# Altium footprint library From_EK_191028.PcbLib: 29 footprints (part 2 of 2)
Each footprint in its own frame and in the unit in brackets; x right, y up, seen from the top. Pads: shape width x height; smd on the part's side, far side on the other; paste and mask are expansions set on the pad; w line width, h text height; cw(c..) or ccw(c..) is an arc to the next point about the centre after c.
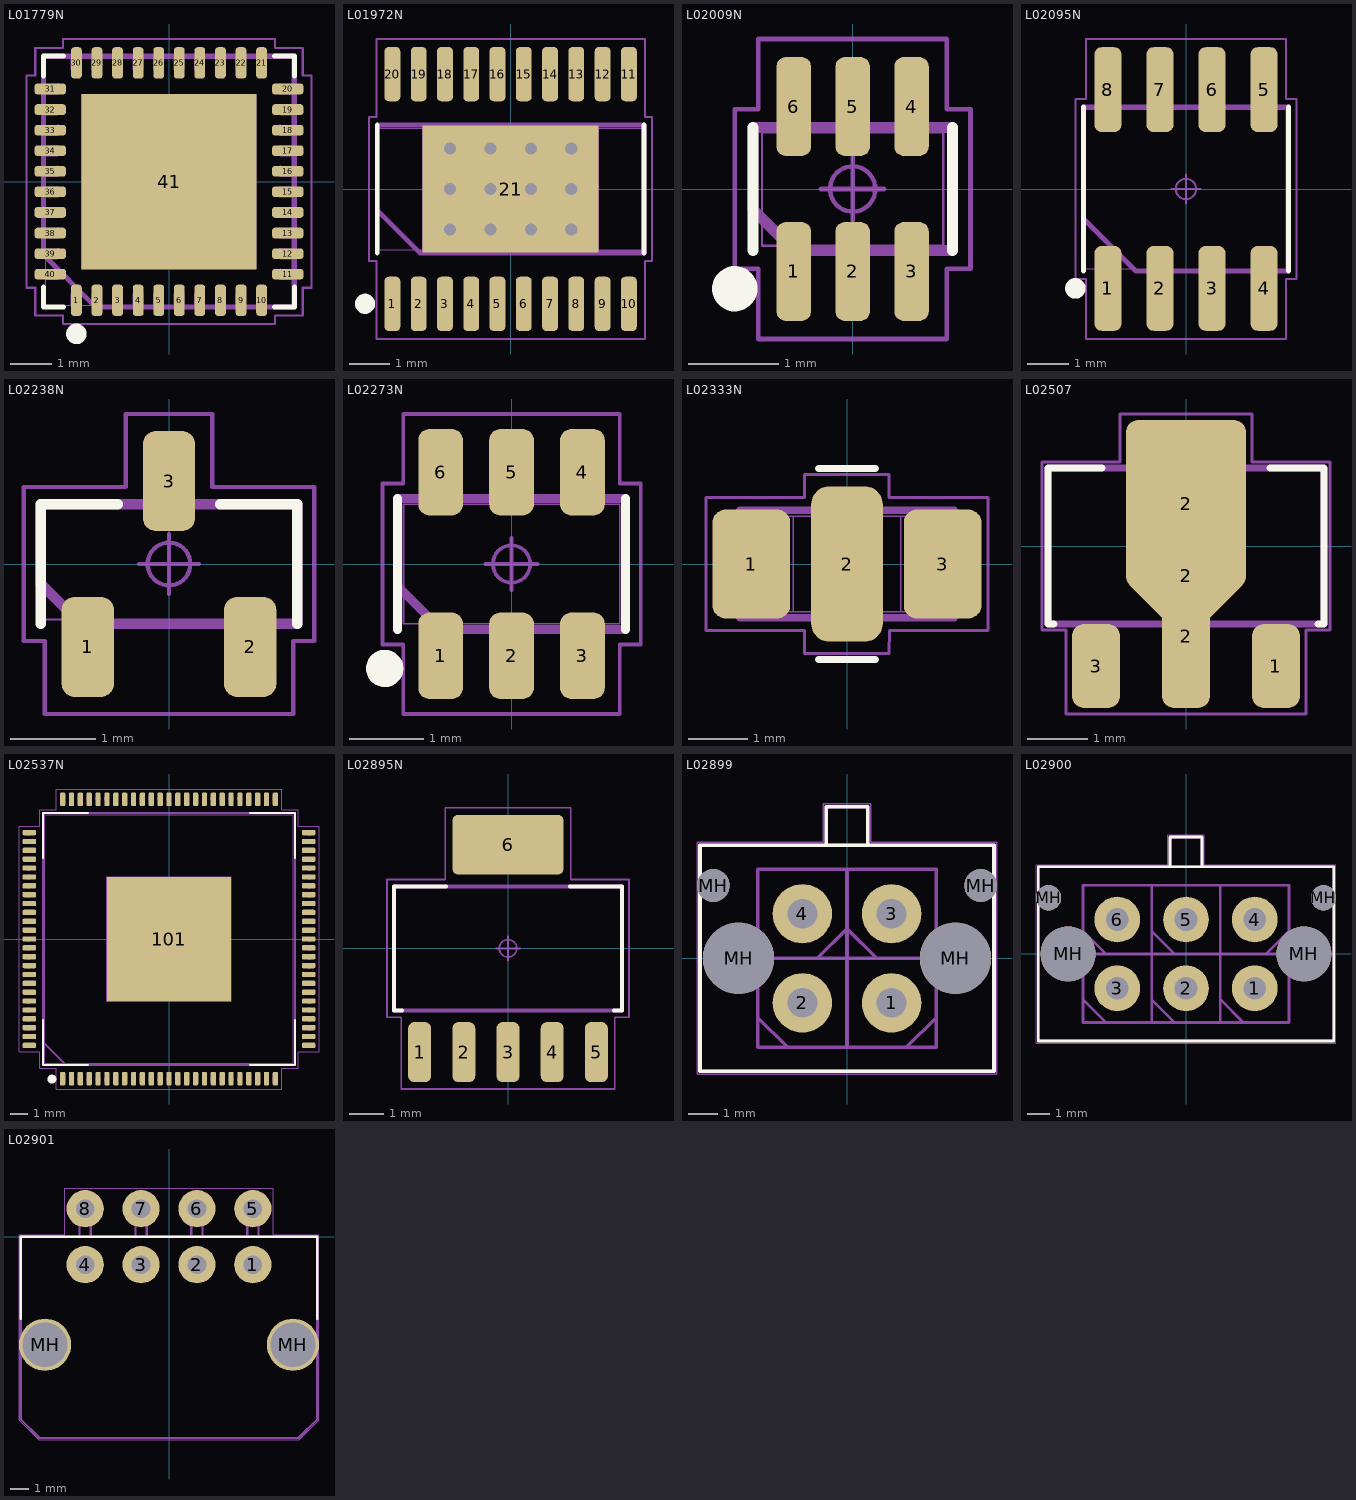
[diagram p1: the footprints below, top view; thin cyan lines are the x and y axes]

## L01779N [mm] "QFN41P50_600X600X100L40X24T425N"
height 1
pads (41):
  rrect54% 0.26x0.76 smd: 1(-2.25,-2.885) 2(-1.75,-2.885) 3(-1.25,-2.885) 4(-0.75,-2.885) 5(-0.25,-2.885) 6(0.25,-2.885) 7(0.75,-2.885) 8(1.25,-2.885) 9(1.75,-2.885) 10(2.25,-2.885) 21(2.25,2.885) 22(1.75,2.885) 23(1.25,2.885) 24(0.75,2.885) 25(0.25,2.885) 26(-0.25,2.885) 27(-0.75,2.885) 28(-1.25,2.885) 29(-1.75,2.885) 30(-2.25,2.885)
  rrect54% 0.76x0.26 smd: 11(2.885,-2.25) 12(2.885,-1.75) 13(2.885,-1.25) 14(2.885,-0.75) 15(2.885,-0.25) 16(2.885,0.25) 17(2.885,0.75) 18(2.885,1.25) 19(2.885,1.75) 20(2.885,2.25) 31(-2.885,2.25) 32(-2.885,1.75) 33(-2.885,1.25) 34(-2.885,0.75) 35(-2.885,0.25) 36(-2.885,-0.25) 37(-2.885,-0.75) 38(-2.885,-1.25) 39(-2.885,-1.75) 40(-2.885,-2.25)
  rect 4.25x4.25 smd: 41(0,0)
Top Overlay:
  circle w0.25: c-2.25,-3.7 r0.125
  lines w0.12: -3.05,-2.56 -3.05,-3.05 -2.56,-3.05 ; -3.05,2.56 -3.05,3.05 -2.56,3.05 ; 2.56,-3.05 3.05,-3.05 3.05,-2.56 ; 2.56,3.05 3.05,3.05 3.05,2.56
Mechanical 13:
  lines w0.12: -3.05,-1.78 -3.05,3.05 3.05,3.05 3.05,-3.05 -1.78,-3.05 -3.05,-1.78
  text ".Designator" at -3.4,-0.6 h1.5
Mechanical 15:
  circle w0.05: c0,0 r0.25
  lines w0.05: -0.35,0 0.35,0 ; 0,-0.35 0,0.35 ; -3.465,-2.58 -3.25,-2.58 -3.25,-3.25 -2.58,-3.25 -2.58,-3.465 2.58,-3.465 2.58,-3.25 3.25,-3.25 3.25,-2.58 3.465,-2.58 3.465,2.58 3.25,2.58 3.25,3.25 2.58,3.25 2.58,3.465 -2.58,3.465 -2.58,3.25 -3.25,3.25 -3.25,2.58 -3.465,2.58 -3.465,-2.58
Mechanical 31:
  drawing of 168 lines, arcs and shapes, not listed
3D body "QFN41P50_600X600X100L40X24T425.STEP": height 1, standoff 0, extent -3.1,-3.1 3.1,3.1

## L01972N [mm] "SOP21P65_650X640X110L60X24T435X315N"
height 1.1
pads (21):
  rrect51% 0.39x1.34 smd: 1(-2.925,-2.84) 2(-2.275,-2.84) 3(-1.625,-2.84) 4(-0.975,-2.84) 5(-0.325,-2.84) 6(0.325,-2.84) 7(0.975,-2.84) 8(1.625,-2.84) 9(2.275,-2.84) 10(2.925,-2.84) 11(2.925,2.84) 12(2.275,2.84) 13(1.625,2.84) 14(0.975,2.84) 15(0.325,2.84) 16(-0.325,2.84) 17(-0.975,2.84) 18(-1.625,2.84) 19(-2.275,2.84) 20(-2.925,2.84)
  rect 4.35x3.15 smd: 21(0,0)
via -1.5,1 diameter 0.6 hole 0.3
via -0.5,1 diameter 0.6 hole 0.3
via 0.5,1 diameter 0.6 hole 0.3
via 1.5,1 diameter 0.6 hole 0.3
via 1.5,0 diameter 0.6 hole 0.3
via 0.5,0 diameter 0.6 hole 0.3
via -0.5,0 diameter 0.6 hole 0.3
via -1.5,0 diameter 0.6 hole 0.3
via 1.5,-1 diameter 0.6 hole 0.3
via 0.5,-1 diameter 0.6 hole 0.3
via -0.5,-1 diameter 0.6 hole 0.3
via -1.5,-1 diameter 0.6 hole 0.3
Top Overlay:
  circle w0.25: c-3.6,-2.84 r0.125
  lines w0.12: -3.3,-1.58 -3.3,1.58 ; 3.3,-1.58 3.3,1.58
Top Paste:
  region: 1.905,-1.305 0.265,-1.305 0.265,-0.265 1.905,-0.265
  region: 1.905,0.265 0.265,0.265 0.265,1.305 1.905,1.305
  region: -0.265,-1.305 -1.905,-1.305 -1.905,-0.265 -0.265,-0.265
  region: -0.265,0.265 -1.905,0.265 -1.905,1.305 -0.265,1.305
Mechanical 13:
  lines w0.12: -3.3,-0.527 -2.247,-1.58 3.3,-1.58 3.3,1.58 -3.3,1.58 -3.3,-0.527
  text ".Designator" at -3.4,-0.6 h1.5
Mechanical 15:
  circle w0.05: c0,0 r0.25
  lines w0.05: -0.35,0 0.35,0 ; 0,-0.35 0,0.35 ; -3.5,-1.78 -3.5,1.78 -3.32,1.78 -3.32,3.71 3.32,3.71 3.32,1.78 3.5,1.78 3.5,-1.78 3.32,-1.78 3.32,-3.71 -3.32,-3.71 -3.32,-1.78 -3.5,-1.78
Mechanical 31:
  lines w0.025: -3.25,-1.5 -3.25,1.5 3.25,1.5 3.25,-1.5 -3.25,-1.5 ; -3.047,-3.2 -2.802,-3.2 -2.802,-2.6 -3.047,-2.6 -3.047,-3.2 ; -3.047,2.6 -2.802,2.6 -2.802,3.2 -3.047,3.2 -3.047,2.6 ; -2.398,-3.2 -2.153,-3.2 -2.153,-2.6 -2.398,-2.6 -2.398,-3.2 ; -2.398,2.6 -2.153,2.6 -2.153,3.2 -2.398,3.2 -2.398,2.6 ; -2.175,-1.575 2.175,-1.575 2.175,1.575 -2.175,1.575 -2.175,-1.575 ; -1.747,-3.2 -1.502,-3.2 -1.502,-2.6 -1.747,-2.6 -1.747,-3.2 ; -1.747,2.6 -1.502,2.6 -1.502,3.2 -1.747,3.2 -1.747,2.6 ; -1.098,-3.2 -0.853,-3.2 -0.853,-2.6 -1.098,-2.6 -1.098,-3.2 ; -1.098,2.6 -0.853,2.6 -0.853,3.2 -1.098,3.2 -1.098,2.6 ; -0.447,-3.2 -0.202,-3.2 -0.202,-2.6 -0.447,-2.6 -0.447,-3.2 ; -0.447,2.6 -0.202,2.6 -0.202,3.2 -0.447,3.2 -0.447,2.6 ; 0.202,-3.2 0.447,-3.2 0.447,-2.6 0.202,-2.6 0.202,-3.2 ; 0.202,2.6 0.447,2.6 0.447,3.2 0.202,3.2 0.202,2.6 ; 0.853,-3.2 1.098,-3.2 1.098,-2.6 0.853,-2.6 0.853,-3.2 ; 0.853,2.6 1.098,2.6 1.098,3.2 0.853,3.2 0.853,2.6 ; 1.502,-3.2 1.747,-3.2 1.747,-2.6 1.502,-2.6 1.502,-3.2 ; 1.502,2.6 1.747,2.6 1.747,3.2 1.502,3.2 1.502,2.6 ; 2.153,-3.2 2.398,-3.2 2.398,-2.6 2.153,-2.6 2.153,-3.2 ; 2.153,2.6 2.398,2.6 2.398,3.2 2.153,3.2 2.153,2.6 ; 2.802,-3.2 3.047,-3.2 3.047,-2.6 2.802,-2.6 2.802,-3.2 ; 2.802,2.6 3.047,2.6 3.047,3.2 2.802,3.2 2.802,2.6
3D body "SOP21P65_650X640X110L60X24T435X315.STEP": height 1.1, standoff 0, extent -3.3,-3.3 3.3,3.3

## L02009N [mm] "SOT23-6P65_210X110L36X22N"
height 1.1
pads (6):
  rrect53% 0.38x1.09 smd: 1(-0.65,-0.91) 2(0,-0.91) 3(0.65,-0.91) 4(0.65,0.91) 5(0,0.91) 6(-0.65,0.91)
Top Overlay:
  circle w0.25: c-1.3,-1.1 r0.125
  lines w0.12: -1.1,-0.68 -1.1,0.68 ; 1.1,-0.68 1.1,0.68
Mechanical 13:
  lines w0.12: -1.1,-0.227 -1.1,0.68 1.1,0.68 1.1,-0.68 -0.647,-0.68 -1.1,-0.227
  text ".Designator" at -2.7,-0.4 h1.2
Mechanical 15:
  circle w0.05: c0,0 r0.25
  lines w0.05: -0.35,0 0.35,0 ; 0,-0.35 0,0.35 ; -1.3,-0.88 -1.04,-0.88 -1.04,-1.655 1.04,-1.655 1.04,-0.88 1.3,-0.88 1.3,0.88 1.04,0.88 1.04,1.655 -1.04,1.655 -1.04,0.88 -1.3,0.88 -1.3,-0.88
Mechanical 31:
  lines w0.025: -1,-0.625 1,-0.625 1,0.625 -1,0.625 -1,-0.625 ; -0.763,-1.05 -0.763,-0.69 -0.537,-0.69 -0.537,-1.05 -0.763,-1.05 ; -0.763,0.69 -0.763,1.05 -0.537,1.05 -0.537,0.69 -0.763,0.69 ; -0.112,-1.05 -0.112,-0.69 0.112,-0.69 0.112,-1.05 -0.112,-1.05 ; -0.112,0.69 -0.112,1.05 0.112,1.05 0.112,0.69 -0.112,0.69 ; 0.537,-1.05 0.537,-0.69 0.763,-0.69 0.763,-1.05 0.537,-1.05 ; 0.537,0.69 0.537,1.05 0.763,1.05 0.763,0.69 0.537,0.69
3D body "SOT23-6P65_210X110L36X22.STEP": height 1.1, standoff 0, extent -1.1,-1.2 1.1,1.2

## L02095N [mm] "SOIC8P127_490X600X180L84X41N"
height 1.8
pads (8):
  rrect52% 0.66x2.07 smd: 1(-1.905,-2.425) 2(-0.635,-2.425) 3(0.635,-2.425) 4(1.905,-2.425) 5(1.905,2.425) 6(0.635,2.425) 7(-0.635,2.425) 8(-1.905,2.425)
Top Overlay:
  circle w0.25: c-2.7,-2.425 r0.125
  lines w0.12: -2.5,-2 -2.5,2 ; 2.5,-2 2.5,2
Mechanical 13:
  lines w0.12: -2.5,-0.73 -2.5,2 2.5,2 2.5,-2 -1.23,-2 -2.5,-0.73
  text ".Designator" at -3.4,-0.6 h1.5
Mechanical 15:
  circle w0.05: c0,0 r0.25
  lines w0.05: -0.35,0 0.35,0 ; 0,-0.35 0,0.35 ; -2.7,-2.2 -2.435,-2.2 -2.435,-3.66 2.435,-3.66 2.435,-2.2 2.7,-2.2 2.7,2.2 2.435,2.2 2.435,3.66 -2.435,3.66 -2.435,2.2 -2.7,2.2 -2.7,-2.2
Mechanical 31:
  lines w0.025: -2.45,-1.95 2.45,-1.95 2.45,1.95 -2.45,1.95 -2.45,-1.95 ; -2.11,-3 -2.11,-2.16 -1.7,-2.16 -1.7,-3 -2.11,-3 ; -2.11,2.16 -2.11,3 -1.7,3 -1.7,2.16 -2.11,2.16 ; -0.84,-3 -0.84,-2.16 -0.43,-2.16 -0.43,-3 -0.84,-3 ; -0.84,2.16 -0.84,3 -0.43,3 -0.43,2.16 -0.84,2.16 ; 0.43,-3 0.43,-2.16 0.84,-2.16 0.84,-3 0.43,-3 ; 0.43,2.16 0.43,3 0.84,3 0.84,2.16 0.43,2.16 ; 1.7,-3 1.7,-2.16 2.11,-2.16 2.11,-3 1.7,-3 ; 1.7,2.16 1.7,3 2.11,3 2.11,2.16 1.7,2.16
3D body "SOIC8P127_490X600X180L84X41.STEP": height 1.8, standoff 0, extent -2.5,-3.1 2.5,3.1

## L02238N [mm] "Small Outline Transistor (SOT23), 0.95 mm pitch; 3 pin, 2.90 mm L X 1.30 mm W X 1.20 mm H body"
height 1.2
pads (3):
  rrect49% 0.61x1.17 smd: 1(-0.95,-0.97) 2(0.95,-0.97) 3(0,0.97)
Top Overlay:
  lines w0.12: -1.5,-0.7 -1.5,0.7 -0.6,0.7 ; 0.6,0.7 1.5,0.7 1.5,-0.7
Mechanical 13:
  lines w0.12: -1.5,-0.233 -1.5,0.7 1.5,0.7 1.5,-0.7 -1.033,-0.7 -1.5,-0.233
  text ".Designator" at -2.54,-0.508 h1.2
Mechanical 15:
  circle w0.05: c0,0 r0.25
  lines w0.05: -0.35,0 0.35,0 ; 0,-0.35 0,0.35 ; -1.7,-0.9 -1.455,-0.9 -1.455,-1.755 1.455,-1.755 1.455,-0.9 1.7,-0.9 1.7,0.9 0.505,0.9 0.505,1.755 -0.505,1.755 -0.505,0.9 -1.7,0.9 -1.7,-0.9
Mechanical 31:
  lines w0.025: -1.45,-0.65 1.45,-0.65 1.45,0.65 -1.45,0.65 -1.45,-0.65 ; -1.15,-1.148 -1.15,-0.657 -0.75,-0.657 -0.75,-1.148 -1.15,-1.148 ; -0.2,0.657 -0.2,1.148 0.2,1.148 0.2,0.657 -0.2,0.657 ; 0.75,-1.148 0.75,-0.657 1.15,-0.657 1.15,-1.148 0.75,-1.148
3D body "SOT23-3P95_229X120L49X40.STEP": height 1.2, standoff 0, extent -1.5,-1.245 1.5,1.245

## L02273N [mm] "SOT23-6P95_280X110L45X37N"
height 1.1
pads (6):
  rrect50% 0.6x1.16 smd: 1(-0.95,-1.23) 2(0,-1.23) 3(0.95,-1.23) 4(0.95,1.23) 5(0,1.23) 6(-0.95,1.23)
Top Overlay:
  circle w0.25: c-1.7,-1.4 r0.125
  lines w0.12: -1.53,-0.88 -1.53,0.88 ; 1.53,-0.88 1.53,0.88
Mechanical 13:
  lines w0.12: -1.53,-0.293 -1.53,0.88 1.53,0.88 1.53,-0.88 -0.943,-0.88 -1.53,-0.293
  text ".Designator" at -2.7,-0.4 h1.2
Mechanical 15:
  circle w0.05: c0,0 r0.25
  lines w0.05: -0.35,0 0.35,0 ; 0,-0.35 0,0.35 ; -1.73,-1.08 -1.45,-1.08 -1.45,-2.01 1.45,-2.01 1.45,-1.08 1.73,-1.08 1.73,1.08 1.45,1.08 1.45,2.01 -1.45,2.01 -1.45,1.08 -1.73,1.08 -1.73,-1.08
Mechanical 31:
  lines w0.025: -1.45,-0.8 1.45,-0.8 1.45,0.8 -1.45,0.8 -1.45,-0.8 ; -1.138,-1.4 -1.138,-0.95 -0.763,-0.95 -0.763,-1.4 -1.138,-1.4 ; -1.138,0.95 -1.138,1.4 -0.763,1.4 -0.763,0.95 -1.138,0.95 ; -0.188,-1.4 -0.188,-0.95 0.188,-0.95 0.188,-1.4 -0.188,-1.4 ; -0.188,0.95 -0.188,1.4 0.188,1.4 0.188,0.95 -0.188,0.95 ; 0.763,-1.4 0.763,-0.95 1.138,-0.95 1.138,-1.4 0.763,-1.4 ; 0.763,0.95 0.763,1.4 1.138,1.4 1.138,0.95 0.763,0.95
3D body "SOT23-6P95_280X110L45X37.STEP": height 1.1, standoff 0, extent -1.525,-1.5 1.525,1.5

## L02333N [mm]
height 1.8
pads (3):
  rrect33% 1.3x1.82 smd: 1(-1.6,0) 3(1.6,0)
  rrect50% 1.2x2.6 smd: 2(0,0)
Top Overlay:
  lines w0.12: -0.475,-1.6 0.475,-1.6 ; -0.475,1.6 0.475,1.6
Mechanical 13:
  lines w0.12: -1.8,-0.9 1.8,-0.9 1.8,0.9 -1.8,0.9 -1.8,-0.9
  text ".Designator" at -3.302,-0.635 h1.5
Mechanical 15:
  circle w0.05: c0,0 r0.25
  lines w0.05: -0.35,0 0.35,0 ; 0,-0.35 0,0.35 ; 0.705,-1.5 -0.71,-1.5 -0.71,-1.11 -2.36,-1.11 -2.36,1.11 -0.71,1.11 -0.71,1.5 0.7,1.5 0.7,1.11 2.36,1.11 2.36,-1.11 0.71,-1.11 0.706,-1.5
Mechanical 31:
  lines w0.025: -1.6,-0.8 1.6,-0.8 ; -1.6,-0.8 -1.6,0.8 ; -1.6,-0.8 -1.6,0.8 ; -1.6,-0.8 -0.9,-0.8 -0.9,0.8 -1.6,0.8 ; -1.6,0.8 1.6,0.8 ; 1.6,-0.8 1.6,0.8 ; 1.6,-0.8 0.9,-0.8 0.9,0.8 1.6,0.8 ; 1.6,-0.8 1.6,0.8
3D body "INDC320X160X180L70.STEP": height 1.8, standoff 0, extent -1.8,-0.9 1.8,0.9
3D body: height 1.8, standoff 0, extent -0.4,-0.9 0.4,0.9

## L02507 [mm]
height 1.6
pads (5):
  rrect50% 0.8x1.4 smd: 1(1.5,-2) 3(-1.5,-2)
  rrect50% 0.8x2.4 smd: 2(0,-1.5)
  rrect30% 1.55x1.55 smd rot 45: 2(0,-0.5)
  rrect20% 2x2.8 smd: 2(0,0.7)
Top Overlay:
  lines w0.12: -2.2,-1.3 -2.3,-1.3 -2.3,1.3 -1.4,1.3 ; 1.4,1.3 2.3,1.3 2.3,-1.3 2.2,-1.3
Mechanical 13:
  lines w0.12: -2.3,-1.3 -2.3,1.3 2.3,1.3 2.3,-1.3 -2.3,-1.3
  text ".Designator" at -3.4,-0.7 h1.5
Mechanical 15:
  lines w0.05: -2.4,-1.4 -2.4,1.4 -1.1,1.4 -1.1,1.8 -1.1,2.2 1.1,2.2 1.1,1.4 2.4,1.4 2.4,-1.4 2,-1.4 2,-2.8 -2,-2.8 -2,-1.4 -2.4,-1.4
3D body "SOT89.step": height 1.53, standoff 0.02, extent -2.25,-2.2 2.25,1.8

## L02537N [mm] "QFP101P50_1600X1600X160L14X22T700N"
height 1.6
pads (101):
  rrect53% 0.3x0.77 smd: 1(-6,-7.875) 2(-5.5,-7.875) 3(-5,-7.875) 4(-4.5,-7.875) 5(-4,-7.875) 6(-3.5,-7.875) 7(-3,-7.875) 8(-2.5,-7.875) 9(-2,-7.875) 10(-1.5,-7.875) 11(-1,-7.875) 12(-0.5,-7.875) 13(0,-7.875) 14(0.5,-7.875) 15(1,-7.875) 16(1.5,-7.875) 17(2,-7.875) 18(2.5,-7.875) 19(3,-7.875) 20(3.5,-7.875) 21(4,-7.875) 22(4.5,-7.875) 23(5,-7.875) 24(5.5,-7.875) 25(6,-7.875) 51(6,7.875) 52(5.5,7.875) 53(5,7.875) 54(4.5,7.875) 55(4,7.875) 56(3.5,7.875) 57(3,7.875) 58(2.5,7.875) 59(2,7.875) 60(1.5,7.875) 61(1,7.875) 62(0.5,7.875) 63(0,7.875) 64(-0.5,7.875) 65(-1,7.875) 66(-1.5,7.875) 67(-2,7.875) 68(-2.5,7.875) 69(-3,7.875) 70(-3.5,7.875) 71(-4,7.875) 72(-4.5,7.875) 73(-5,7.875) 74(-5.5,7.875) 75(-6,7.875)
  rrect53% 0.77x0.3 smd: 26(7.875,-6) 27(7.875,-5.5) 28(7.875,-5) 29(7.875,-4.5) 30(7.875,-4) 31(7.875,-3.5) 32(7.875,-3) 33(7.875,-2.5) 34(7.875,-2) 35(7.875,-1.5) 36(7.875,-1) 37(7.875,-0.5) 38(7.875,0) 39(7.875,0.5) 40(7.875,1) 41(7.875,1.5) 42(7.875,2) 43(7.875,2.5) 44(7.875,3) 45(7.875,3.5) 46(7.875,4) 47(7.875,4.5) 48(7.875,5) 49(7.875,5.5) 50(7.875,6) 76(-7.875,6) 77(-7.875,5.5) 78(-7.875,5) 79(-7.875,4.5) 80(-7.875,4) 81(-7.875,3.5) 82(-7.875,3) 83(-7.875,2.5) 84(-7.875,2) 85(-7.875,1.5) 86(-7.875,1) 87(-7.875,0.5) 88(-7.875,0) 89(-7.875,-0.5) 90(-7.875,-1) 91(-7.875,-1.5) 92(-7.875,-2) 93(-7.875,-2.5) 94(-7.875,-3) 95(-7.875,-3.5) 96(-7.875,-4) 97(-7.875,-4.5) 98(-7.875,-5) 99(-7.875,-5.5) 100(-7.875,-6)
  rect 7x7 smd: 101(0,0)
Top Overlay:
  circle w0.25: c-6.6,-7.9 r0.125
  lines w0.12: -7.1,-4.56 -7.1,-7.1 -4.56,-7.1 ; -7.1,4.56 -7.1,7.1 -4.56,7.1 ; 4.56,-7.1 7.1,-7.1 7.1,-4.56 ; 4.56,7.1 7.1,7.1 7.1,4.56
Mechanical 13:
  lines w0.12: -7.1,-5.83 -7.1,7.1 7.1,7.1 7.1,-7.1 -5.83,-7.1 -7.1,-5.83
  text ".Designator" at -3.4,-0.6 h1.5
Mechanical 15:
  circle w0.05: c0,0 r0.25
  lines w0.05: -0.35,0 0.35,0 ; 0,-0.35 0,0.35 ; -8.46,-6.35 -7.3,-6.35 -7.3,-7.3 -6.35,-7.3 -6.35,-8.46 6.35,-8.46 6.35,-7.3 7.3,-7.3 7.3,-6.35 8.46,-6.35 8.46,6.35 7.3,6.35 7.3,7.3 6.35,7.3 6.35,8.46 -6.35,8.46 -6.35,7.3 -7.3,7.3 -7.3,6.35 -8.46,6.35 -8.46,-6.35
Mechanical 31:
  drawing of 408 lines, arcs and shapes, not listed
3D body "QFP101P50_1600X1600X160L14X22T700.STEP": height 1.6, standoff 0, extent -8.1,-8.1 8.1,8.1

## L02895N [mm] "SOT223-6P127_706X180L102X46N"
height 1.8
pads (6):
  rrect52% 0.66x1.72 smd: 1(-2.54,-2.98) 2(-1.27,-2.98) 3(0,-2.98) 4(1.27,-2.98) 5(2.54,-2.98)
  rrect20% 3.2x1.72 smd: 6(0,2.98)
Top Overlay:
  lines w0.12: -3.05,-1.78 -3.28,-1.78 -3.28,1.78 -1.78,1.78 ; 1.78,1.78 3.28,1.78 3.28,-1.78 3.05,-1.78
Mechanical 13:
  lines w0.12: -3.28,-1.78 3.28,-1.78 3.28,1.78 -3.28,1.78 -3.28,-1.78
  text ".Designator" at -3.4,-0.6 h1.5
Mechanical 15:
  circle w0.05: c0,0 r0.25
  lines w0.05: -0.35,0 0.35,0 ; 0,-0.35 0,0.35 ; -3.48,-1.98 -3.07,-1.98 -3.07,-4.04 3.07,-4.04 3.07,-1.98 3.48,-1.98 3.48,1.98 1.8,1.98 1.8,4.04 -1.8,4.04 -1.8,1.98 -3.48,1.98 -3.48,-1.98
Mechanical 31:
  lines w0.025: -3.25,-1.75 3.25,-1.75 3.25,1.75 -3.25,1.75 -3.25,-1.75 ; -2.77,-3.53 -2.77,-2.505 -2.31,-2.505 -2.31,-3.53 -2.77,-3.53 ; -1.5,-3.53 -1.5,-2.505 -1.04,-2.505 -1.04,-3.53 -1.5,-3.53 ; -1.5,2.505 -1.5,3.53 1.5,3.53 1.5,2.505 -1.5,2.505 ; -0.23,-3.53 -0.23,-2.505 0.23,-2.505 0.23,-3.53 -0.23,-3.53 ; 1.04,-3.53 1.04,-2.505 1.5,-2.505 1.5,-3.53 1.04,-3.53 ; 2.31,-3.53 2.31,-2.505 2.77,-2.505 2.77,-3.53 2.31,-3.53
3D body "SOT223-6P127_706X180L102X46.STEP": height 1.8, standoff 0, extent -3.275,-3.63 3.275,3.63

## L02899 [mm]
height 10.2
pads (8):
  round 2 hole 1: 1(1.5,-1.5) 2(-1.5,-1.5) 3(1.5,1.5) 4(-1.5,1.5)
  round 1.1 hole 1.1 unplated: MH(-4.5,2.45) MH(4.5,2.45)
  round 2.4 hole 2.4 unplated: MH(-3.65,0) MH(3.65,0)
Top Overlay:
  lines w0.12: -0.7,3.8 -0.7,5.1 0.7,5.1 0.7,3.8 ; -4.95,-3.8 -4.95,3.8 4.95,3.8 4.95,-3.8 -4.95,-3.8
Mechanical 13:
  lines w0.12: -3,-2 -2,-3 ; -3,0 3,0 3,-3 ; -1,0 0,1 1,0 ; -0.7,3.8 -0.7,5.1 0.7,5.1 0.7,3.8 ; 0,3 0,-3 3,-3 ; 2,-3 3,-2 ; 3,-3 -3,-3 -3,3 3,3 3,-3 ; -4.95,-3.8 4.95,-3.8 4.95,3.8 -4.95,3.8 -4.95,-3.8
  text ".Designator" at -3.4,5.5 h1.5
Mechanical 15:
  lines w0.05: -5.05,-3.9 5.05,-3.9 5.05,3.9 0.8,3.9 0.8,5.2 -0.8,5.2 -0.8,3.9 -5.05,3.9 -5.05,-3.9
3D body "430450424.stp": height 9.95, standoff -3.14, extent -5.075,-3.94 5.075,4.83

## L02900 [mm]
height 10.2
pads (10):
  round 2 hole 1: 1(3,-1.5) 2(0,-1.5) 3(-3,-1.5) 4(3,1.5) 5(0,1.5) 6(-3,1.5)
  round 1.1 hole 1.1 unplated: MH(-6,2.45) MH(6,2.45)
  round 2.4 hole 2.4 unplated: MH(-5.15,0) MH(5.15,0)
Top Overlay:
  lines w0.12: -0.7,3.8 -0.7,5.1 0.7,5.1 0.7,3.8 ; -6.45,-3.8 -6.45,3.8 6.45,3.8 6.45,-3.8 -6.45,-3.8
Mechanical 13:
  lines w0.12: -4.5,-2 -3.5,-3 ; -4.5,0 4.5,0 4.5,-3 ; -4.5,1 -3.5,0 ; -1.5,-3 -1.5,3 ; -1.5,-2 -0.5,-3 ; -1.5,1 -0.5,0 ; -0.7,3.8 -0.7,5.1 0.7,5.1 0.7,3.8 ; 1.5,-2 2.5,-3 ; 1.5,3 1.5,-3 4.5,-3 ; 3.5,0 4.5,1 ; 4.5,-3 -4.5,-3 -4.5,3 4.5,3 4.5,-3 ; -6.45,-3.8 6.45,-3.8 6.45,3.8 -6.45,3.8 -6.45,-3.8
  text ".Designator" at -3.4,5.5 h1.5
Mechanical 15:
  lines w0.05: -6.55,-3.9 6.55,-3.9 6.55,3.9 0.8,3.9 0.8,5.2 -0.8,5.2 -0.8,3.9 -6.55,3.9 -6.55,-3.9
3D body "430450624.stp": height 9.95, standoff -3.14, extent -6.575,-3.94 6.575,4.83

## L02901 [mm]
height 10.2
pads (10):
  round 2 hole 1: 1(4.5,-1.5) 2(1.5,-1.5) 3(-1.5,-1.5) 4(-4.5,-1.5) 5(4.5,1.5) 6(1.5,1.5) 7(-1.5,1.5) 8(-4.5,1.5)
  round 2.8 hole 2.4: MH(-6.65,-5.8) MH(6.65,-5.8)
Top Overlay:
  lines w0.12: -7.95,-4.4 -7.95,0 7.95,0 7.95,-4.4
Mechanical 13:
  lines w0.12: -4.8,0 -4.8,1.5 ; -4.2,0 -4.2,1.5 ccw(c-4.5,1.5) -4.8,1.5 ; -1.8,0 -1.8,1.5 cw(c-1.5,1.5) -1.2,1.5 -1.2,0 ; 1.2,0 1.2,1.5 cw(c1.5,1.5) 1.8,1.5 1.8,0 ; 4.2,0 4.2,1.5 cw(c4.5,1.5) 4.8,1.5 4.8,0 ; -7.95,-9.8 -6.95,-10.8 6.95,-10.8 7.95,-9.8 ; -7.95,-9.8 -7.95,-9.8 ; -7.95,-9.8 -7.95,0 7.95,0 7.95,-9.8 ; -4.8,1.5 -4.8,1.5 ; 7.95,-9.8 7.95,-9.8
  text ".Designator" at -3.35,-6 h1.5
Mechanical 15:
  lines w0.05: -8.05,-9.85 -8.05,-3.9 -8.05,0.1 -5.6,0.1 -5.6,2.6 5.6,2.6 5.6,0.1 8.05,0.1 8.05,-3.9 8.05,-9.85 7,-10.9 6.1,-10.9 -7,-10.9 -8.05,-9.85
3D body "430450821.stp": height 9.83, standoff -2.12, extent -8.125,-10.45 8.075,1.79